# Altium footprint library SOIC_127P_N.PcbLib: 43 footprints (part 1 of 3)
Each footprint in its own frame and in the unit in brackets; x right, y up, seen from the top. Pads: shape width x height; smd on the part's side, far side on the other; paste and mask are expansions set on the pad; w line width, h text height; cw(c..) or ccw(c..) is an arc to the next point about the centre after c.
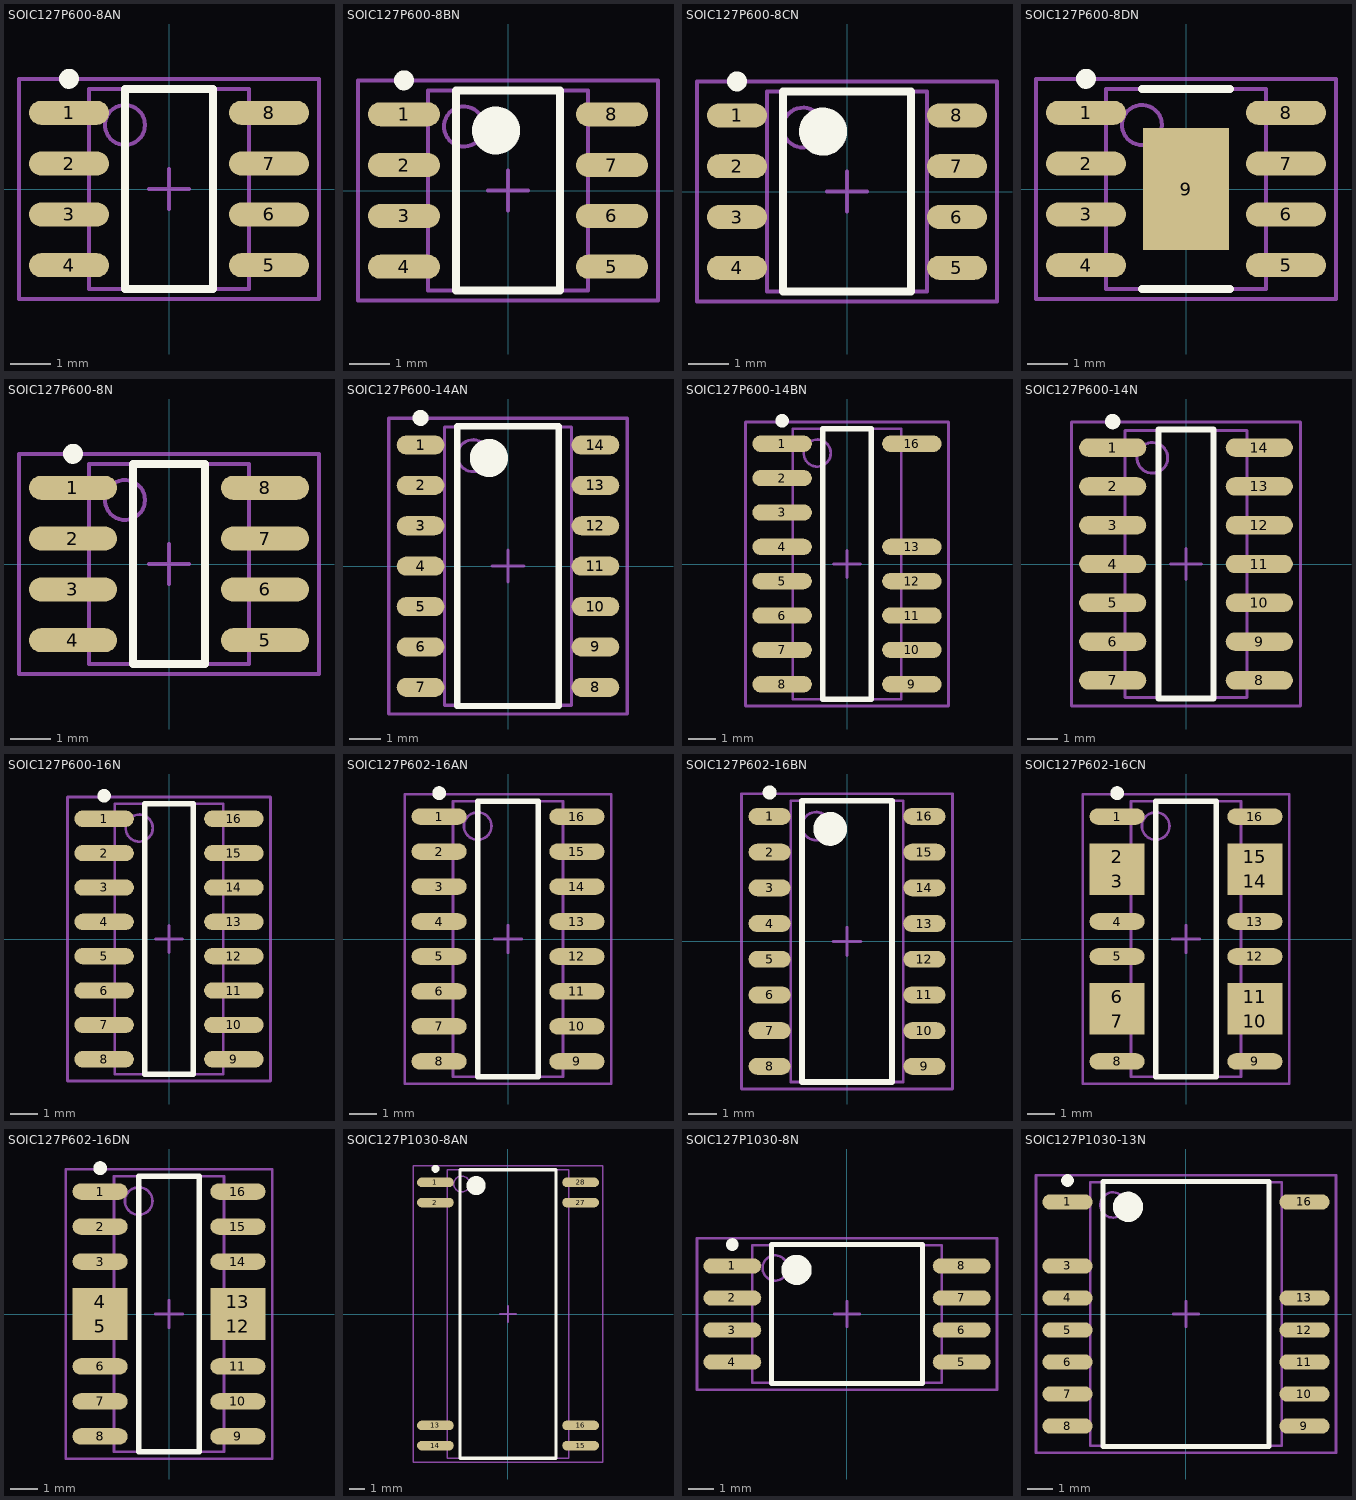
[diagram p0: the footprints below, top view; thin cyan lines are the x and y axes]

## SOIC127P600-8AN [mm] "SOIC, 8-Leads, Body 4.9x3.9mm, Pitch 1.27mm, IPC Medium Density"
height 2.72
pads (8):
  oval 2x0.6 smd: 1(-2.5,1.905) 2(-2.5,0.635) 3(-2.5,-0.635) 4(-2.5,-1.905) 5(2.5,-1.905) 6(2.5,-0.635) 7(2.5,0.635) 8(2.5,1.905)
Top Overlay:
  circle w0.25: c-2.5,2.755 r0.125
  lines w0.2: -1.1,-2.5 1.1,-2.5 1.1,2.5 -1.1,2.5 -1.1,-2.5
Mechanical 13:
  circle w0.1: c-1.1,1.6 r0.5
  lines w0.1: -2,-2.5 2,-2.5 2,2.5 -2,2.5 -2,-2.5
Mechanical 15:
  lines w0.1: -0.5,0 0.5,0 ; 0,-0.5 0,0.5 ; -3.75,-2.75 3.75,-2.75 3.75,2.75 -3.75,2.75 -3.75,-2.75
3D body: height 2.72, standoff 0, extent -2,-2.5 2,2.5

## SOIC127P600-8BN [mm] "SOIC, 8-Leads, Body 4.9x3.9mm, Pitch 1.27mm, IPC Medium Density"
height 2.59
pads (8):
  oval 1.8x0.6 smd: 1(-2.6,1.905) 2(-2.6,0.635) 3(-2.6,-0.635) 4(-2.6,-1.905) 5(2.6,-1.905) 6(2.6,-0.635) 7(2.6,0.635) 8(2.6,1.905)
Top Overlay:
  circle w0.25: c-2.6,2.755 r0.125
  circle w0.6: c-0.3,1.5 r0.3
  lines w0.2: -1.3,-2.5 -1.3,2.5 1.3,2.5 1.3,-2.5 -1.3,-2.5
Mechanical 13:
  circle w0.1: c-1.1,1.6 r0.5
  lines w0.1: -2,-2.5 -2,2.5 2,2.5 2,-2.5 -2,-2.5
Mechanical 15:
  lines w0.1: -0.5,0 0.5,0 ; 0,-0.5 0,0.5 ; -3.75,-2.75 -3.75,2.75 3.75,2.75 3.75,-2.75 -3.75,-2.75
3D body: height 2.59, standoff 0, extent -2,-2.5 2,2.5

## SOIC127P600-8CN [mm] "SOIC, 8-Leads, Body 4.9x3.9mm, Pitch 1.27mm, IPC Medium Density"
height 1.73
pads (8):
  oval 1.5x0.6 smd: 1(-2.75,1.905) 2(-2.75,0.635) 3(-2.75,-0.635) 4(-2.75,-1.905) 5(2.75,-1.905) 6(2.75,-0.635) 7(2.75,0.635) 8(2.75,1.905)
Top Overlay:
  circle w0.6: c-0.6,1.5 r0.3
  circle w0.25: c-2.75,2.755 r0.125
  lines w0.2: -1.6,-2.5 1.6,-2.5 1.6,2.5 -1.6,2.5 -1.6,-2.5
Mechanical 13:
  circle w0.1: c-1.1,1.6 r0.5
  lines w0.1: -2,-2.5 2,-2.5 2,2.5 -2,2.5 -2,-2.5
Mechanical 15:
  lines w0.1: -0.5,0 0.5,0 ; 0,-0.5 0,0.5 ; -3.75,-2.75 3.75,-2.75 3.75,2.75 -3.75,2.75 -3.75,-2.75
3D body: height 1.73, standoff 0, extent -2,-2.5 2,2.5

## SOIC127P600-8DN [mm] "8-Pin Small Outline Integrated Circuit 1.27 mm Pitch"
height 1.55
pads (9):
  oval 2x0.6 smd: 1(-2.5,1.905) 2(-2.5,0.635) 3(-2.5,-0.635) 4(-2.5,-1.905) 5(2.5,-1.905) 6(2.5,-0.635) 7(2.5,0.635) 8(2.5,1.905)
  rect 2.15x3.05 smd: 9(0,0)
Top Overlay:
  circle w0.25: c-2.5,2.755 r0.125
  lines w0.2: -1.1,-2.5 1.1,-2.5 ; -1.1,2.5 1.1,2.5
Mechanical 13:
  circle w0.1: c-1.1,1.6 r0.5
  lines w0.1: -2,-2.5 -2,2.5 2,2.5 2,-2.5 -2,-2.5
Mechanical 15:
  lines w0.1: -0.5,0 0.5,0 ; 0,-0.5 0,0.5 ; -3.75,-2.75 -3.75,2.75 3.75,2.75 3.75,-2.75 -3.75,-2.75
3D body: height 1.55, standoff 0, extent -2,-2.5 2,2.5

## SOIC127P600-8N [mm] "SOIC, 8-Leads, Body 4.9x3.9mm, Pitch 1.27mm, IPC Medium Density"
height 1.75
pads (8):
  oval 2.2x0.6 smd: 1(-2.4,1.905) 2(-2.4,0.635) 3(-2.4,-0.635) 4(-2.4,-1.905) 5(2.4,-1.905) 6(2.4,-0.635) 7(2.4,0.635) 8(2.4,1.905)
Top Overlay:
  circle w0.25: c-2.4,2.755 r0.125
  lines w0.2: -0.9,-2.5 -0.9,2.5 0.9,2.5 0.9,-2.5 -0.9,-2.5
Mechanical 13:
  circle w0.1: c-1.1,1.6 r0.5
  lines w0.1: -2,-2.5 -2,2.5 2,2.5 2,-2.5 -2,-2.5
Mechanical 15:
  lines w0.1: -0.5,0 0.5,0 ; 0,-0.5 0,0.5 ; -3.75,-2.75 -3.75,2.75 3.75,2.75 3.75,-2.75 -3.75,-2.75
3D body: height 1.75, standoff 0, extent -2,-2.5 2,2.5

## SOIC127P600-14AN [mm] "SOIC, 14-Leads, Body 8.6x3.9mm, Pitch 1.27mm, IPC Medium Density"
height 1.73
pads (14):
  oval 1.5x0.6 smd: 1(-2.75,3.81) 2(-2.75,2.54) 3(-2.75,1.27) 4(-2.75,0) 5(-2.75,-1.27) 6(-2.75,-2.54) 7(-2.75,-3.81) 8(2.75,-3.81) 9(2.75,-2.54) 10(2.75,-1.27) 11(2.75,0) 12(2.75,1.27) 13(2.75,2.54) 14(2.75,3.81)
Top Overlay:
  circle w0.6: c-0.6,3.4 r0.3
  circle w0.25: c-2.75,4.66 r0.125
  lines w0.2: -1.6,-4.4 1.6,-4.4 1.6,4.4 -1.6,4.4 -1.6,-4.4
Mechanical 13:
  circle w0.1: c-1.1,3.475 r0.5
  lines w0.1: -2,-4.375 2,-4.375 2,4.375 -2,4.375 -2,-4.375
Mechanical 15:
  lines w0.1: -0.5,0 0.5,0 ; 0,-0.5 0,0.5 ; -3.75,-4.65 3.75,-4.65 3.75,4.65 -3.75,4.65 -3.75,-4.65
3D body: height 1.73, standoff 0, extent -2,-4.375 2,4.375

## SOIC127P600-14BN [mm] "SOIC, 16-Leads (2 Absent), Body 9.9x3.9 mm, Pitch 1.27mm, IPC Medium Density"
height 1.75
pads (14):
  oval 2.2x0.6 smd: 1(-2.4,4.445) 2(-2.4,3.175) 3(-2.4,1.905) 4(-2.4,0.635) 5(-2.4,-0.635) 6(-2.4,-1.905) 7(-2.4,-3.175) 8(-2.4,-4.445) 9(2.4,-4.445) 10(2.4,-3.175) 11(2.4,-1.905) 12(2.4,-0.635) 13(2.4,0.635) 16(2.4,4.445)
Top Overlay:
  circle w0.25: c-2.4,5.295 r0.125
  lines w0.2: -0.9,-5 -0.9,5 0.9,5 0.9,-5 -0.9,-5
Mechanical 13:
  circle w0.1: c-1.1,4.1 r0.5
  lines w0.1: -2,-5 -2,5 2,5 2,-5 -2,-5
Mechanical 15:
  lines w0.1: -0.5,0 0.5,0 ; 0,-0.5 0,0.5 ; -3.75,-5.25 -3.75,5.25 3.75,5.25 3.75,-5.25 -3.75,-5.25
3D body: height 1.75, standoff 0, extent -2,-5 2,5

## SOIC127P600-14N [mm] "SOIC, 14-Leads, Body 8.7x3.9mm, Pitch 1.27mm, IPC Medium Density"
height 1.75
pads (14):
  oval 2.2x0.6 smd: 1(-2.4,3.81) 2(-2.4,2.54) 3(-2.4,1.27) 4(-2.4,0) 5(-2.4,-1.27) 6(-2.4,-2.54) 7(-2.4,-3.81) 8(2.4,-3.81) 9(2.4,-2.54) 10(2.4,-1.27) 11(2.4,0) 12(2.4,1.27) 13(2.4,2.54) 14(2.4,3.81)
Top Overlay:
  circle w0.25: c-2.4,4.66 r0.125
  lines w0.2: -0.9,-4.4 -0.9,4.4 0.9,4.4 0.9,-4.4 -0.9,-4.4
Mechanical 13:
  circle w0.1: c-1.1,3.475 r0.5
  lines w0.1: -2,-4.375 -2,4.375 2,4.375 2,-4.375 -2,-4.375
Mechanical 15:
  lines w0.1: -0.5,0 0.5,0 ; 0,-0.5 0,0.5 ; -3.75,-4.65 -3.75,4.65 3.75,4.65 3.75,-4.65 -3.75,-4.65
3D body: height 1.75, standoff 0, extent -2,-4.375 2,4.375

## SOIC127P600-16N [mm] "SOIC, 16-Leads, Body 9.9x3.9mm, Pitch 1.27mm, IPC Medium Density"
height 1.75
pads (16):
  oval 2.2x0.6 smd: 1(-2.4,4.445) 2(-2.4,3.175) 3(-2.4,1.905) 4(-2.4,0.635) 5(-2.4,-0.635) 6(-2.4,-1.905) 7(-2.4,-3.175) 8(-2.4,-4.445) 9(2.4,-4.445) 10(2.4,-3.175) 11(2.4,-1.905) 12(2.4,-0.635) 13(2.4,0.635) 14(2.4,1.905) 15(2.4,3.175) 16(2.4,4.445)
Top Overlay:
  circle w0.25: c-2.4,5.295 r0.125
  lines w0.2: -0.9,-5 0.9,-5 0.9,5 -0.9,5 -0.9,-5
Mechanical 13:
  circle w0.1: c-1.1,4.1 r0.5
  lines w0.1: -2,-5 2,-5 2,5 -2,5 -2,-5
Mechanical 15:
  lines w0.1: -0.5,0 0.5,0 ; 0,-0.5 0,0.5 ; -3.75,-5.25 3.75,-5.25 3.75,5.25 -3.75,5.25 -3.75,-5.25
3D body: height 1.75, standoff 0, extent -2,-5 2,5

## SOIC127P602-16AN [mm] "SOIC, 16-Leads, Body 9.9x3.9mm, Pitch 1.27mm, IPC Medium Density"
height 1.73
pads (16):
  oval 2x0.6 smd: 1(-2.5,4.445) 2(-2.5,3.175) 3(-2.5,1.905) 4(-2.5,0.635) 5(-2.5,-0.635) 6(-2.5,-1.905) 7(-2.5,-3.175) 8(-2.5,-4.445) 9(2.5,-4.445) 10(2.5,-3.175) 11(2.5,-1.905) 12(2.5,-0.635) 13(2.5,0.635) 14(2.5,1.905) 15(2.5,3.175) 16(2.5,4.445)
Top Overlay:
  circle w0.25: c-2.5,5.295 r0.125
  lines w0.2: -1.1,-5 1.1,-5 1.1,5 -1.1,5 -1.1,-5
Mechanical 13:
  circle w0.1: c-1.1,4.1 r0.5
  lines w0.1: -2,-5 2,-5 2,5 -2,5 -2,-5
Mechanical 15:
  lines w0.1: -0.5,0 0.5,0 ; 0,-0.5 0,0.5 ; -3.75,-5.25 3.75,-5.25 3.75,5.25 -3.75,5.25 -3.75,-5.25
3D body: height 1.73, standoff 0, extent -2,-5 2,5

## SOIC127P602-16BN [mm] "SOIC, 16-Leads, Body 9.9x3.9mm, Pitch 1.27mm, IPC Medium Density"
height 1.73
pads (16):
  oval 1.5x0.6 smd: 1(-2.75,4.445) 2(-2.75,3.175) 3(-2.75,1.905) 4(-2.75,0.635) 5(-2.75,-0.635) 6(-2.75,-1.905) 7(-2.75,-3.175) 8(-2.75,-4.445) 9(2.75,-4.445) 10(2.75,-3.175) 11(2.75,-1.905) 12(2.75,-0.635) 13(2.75,0.635) 14(2.75,1.905) 15(2.75,3.175) 16(2.75,4.445)
Top Overlay:
  circle w0.6: c-0.6,4 r0.3
  circle w0.25: c-2.75,5.295 r0.125
  lines w0.2: -1.6,-5 1.6,-5 1.6,5 -1.6,5 -1.6,-5
Mechanical 13:
  circle w0.1: c-1.1,4.1 r0.5
  lines w0.1: -2,-5 2,-5 2,5 -2,5 -2,-5
Mechanical 15:
  lines w0.1: -0.5,0 0.5,0 ; 0,-0.5 0,0.5 ; -3.75,-5.25 3.75,-5.25 3.75,5.25 -3.75,5.25 -3.75,-5.25
3D body: height 1.73, standoff 0, extent -2,-5 2,5

## SOIC127P602-16CN [mm] "16-Pin Small Outline Integrated Circuit 1.27 mm Pitch"
height 1.5
pads (16):
  oval 2x0.6 smd: 1(-2.5,4.445) 4(-2.5,0.635) 5(-2.5,-0.635) 8(-2.5,-4.445) 9(2.5,-4.445) 12(2.5,-0.635) 13(2.5,0.635) 16(2.5,4.445)
  rect 2x0.99 smd: 2(-2.5,2.98) 3(-2.5,2.1) 6(-2.5,-2.1) 7(-2.5,-2.98) 10(2.5,-2.98) 11(2.5,-2.1) 14(2.5,2.1) 15(2.5,2.98)
Top Overlay:
  circle w0.25: c-2.5,5.295 r0.125
  lines w0.2: -1.1,-5 -1.1,5 1.1,5 1.1,-5 -1.1,-5
Mechanical 13:
  circle w0.1: c-1.1,4.1 r0.5
  lines w0.1: -2,-5 -2,5 2,5 2,-5 -2,-5
Mechanical 15:
  lines w0.1: -0.5,0 0.5,0 ; 0,-0.5 0,0.5 ; -3.75,-5.25 -3.75,5.25 3.75,5.25 3.75,-5.25 -3.75,-5.25
3D body: height 1.5, standoff 0, extent -2,-5 2,5

## SOIC127P602-16DN [mm] "16-Pin Small Outline Integrated Circuit 1.27 mm Pitch"
height 1.5
pads (16):
  oval 2x0.6 smd: 1(-2.5,4.445) 2(-2.5,3.175) 3(-2.5,1.905) 6(-2.5,-1.905) 7(-2.5,-3.175) 8(-2.5,-4.445) 9(2.5,-4.445) 10(2.5,-3.175) 11(2.5,-1.905) 14(2.5,1.905) 15(2.5,3.175) 16(2.5,4.445)
  rect 2x0.99 smd: 4(-2.5,0.44) 5(-2.5,-0.44) 12(2.5,-0.44) 13(2.5,0.44)
Top Overlay:
  circle w0.25: c-2.5,5.295 r0.125
  lines w0.2: -1.1,-5 1.1,-5 1.1,5 -1.1,5 -1.1,-5
Mechanical 13:
  circle w0.1: c-1.1,4.1 r0.5
  lines w0.1: -2,-5 2,-5 2,5 -2,5 -2,-5
Mechanical 15:
  lines w0.1: -0.5,0 0.5,0 ; 0,-0.5 0,0.5 ; -3.75,-5.25 3.75,-5.25 3.75,5.25 -3.75,5.25 -3.75,-5.25
3D body: height 1.5, standoff 0, extent -2,-5 2,5

## SOIC127P1030-8AN [mm] "SOIC, 28-Leads (20 Absent), Body 17.9x7.5 mm, Pitch 1.27mm, IPC Medium Density"
height 2.64
pads (8):
  oval 2.3x0.6 smd: 1(-4.55,8.255) 2(-4.55,6.985) 13(-4.55,-6.985) 14(-4.55,-8.255) 15(4.55,-8.255) 16(4.55,-6.985) 27(4.55,6.985) 28(4.55,8.255)
Top Overlay:
  circle w0.25: c-4.55,9.105 r0.125
  circle w0.6: c-2,8.05 r0.3
  lines w0.2: -3,-9.05 -3,9.05 3,9.05 3,-9.05 -3,-9.05
Mechanical 13:
  circle w0.1: c-2.9,8.15 r0.5
  lines w0.1: -3.8,-9.05 -3.8,9.05 3.8,9.05 3.8,-9.05 -3.8,-9.05
Mechanical 15:
  lines w0.1: -0.5,0 0.5,0 ; 0,-0.5 0,0.5 ; -5.95,-9.3 -5.95,9.3 5.95,9.3 5.95,-9.3 -5.95,-9.3
3D body: height 2.64, standoff 0, extent -3.8,-9.05 3.8,9.05

## SOIC127P1030-8N [mm] "SOIC, 8-Leads, Body 5.3x7.5mm, Pitch 1.27mm, IPC Medium Density"
height 2.65
pads (8):
  oval 2.3x0.6 smd: 1(-4.55,1.905) 2(-4.55,0.635) 3(-4.55,-0.635) 4(-4.55,-1.905) 5(4.55,-1.905) 6(4.55,-0.635) 7(4.55,0.635) 8(4.55,1.905)
Top Overlay:
  circle w0.25: c-4.55,2.755 r0.125
  circle w0.6: c-2,1.75 r0.3
  lines w0.2: -3,-2.75 -3,2.75 3,2.75 3,-2.75 -3,-2.75
Mechanical 13:
  circle w0.1: c-2.85,1.825 r0.5
  lines w0.1: -3.75,-2.725 -3.75,2.725 3.75,2.725 3.75,-2.725 -3.75,-2.725
Mechanical 15:
  lines w0.1: -0.5,0 0.5,0 ; 0,-0.5 0,0.5 ; -5.95,-3 -5.95,3 5.95,3 5.95,-3 -5.95,-3
3D body: height 2.65, standoff 0, extent -3.75,-2.725 3.75,2.725

## SOIC127P1030-13N [mm] "SOIC, 16-Leads (3 Absent), Body 10.3x7.5 mm, Pitch 1.27mm, IPC Medium Density"
height 2.65
pads (13):
  oval 2x0.6 smd: 1(-4.7,4.445) 3(-4.7,1.905) 4(-4.7,0.635) 5(-4.7,-0.635) 6(-4.7,-1.905) 7(-4.7,-3.175) 8(-4.7,-4.445) 9(4.7,-4.445) 10(4.7,-3.175) 11(4.7,-1.905) 12(4.7,-0.635) 13(4.7,0.635) 16(4.7,4.445)
Top Overlay:
  circle w0.25: c-4.7,5.295 r0.125
  circle w0.6: c-2.3,4.25 r0.3
  lines w0.2: -3.3,-5.25 -3.3,5.25 3.3,5.25 3.3,-5.25 -3.3,-5.25
Mechanical 13:
  circle w0.1: c-2.9,4.325 r0.5
  lines w0.1: -3.8,-5.225 -3.8,5.225 3.8,5.225 3.8,-5.225 -3.8,-5.225
Mechanical 15:
  lines w0.1: -0.5,0 0.5,0 ; 0,-0.5 0,0.5 ; -5.95,-5.5 -5.95,5.5 5.95,5.5 5.95,-5.5 -5.95,-5.5
3D body: height 2.65, standoff 0, extent -3.8,-5.225 3.8,5.225